# EAGLE library part OPA2170AID (library strasys_standard)
Low-Power OPERATIONAL AMPLIFIERS,SOIC- 8
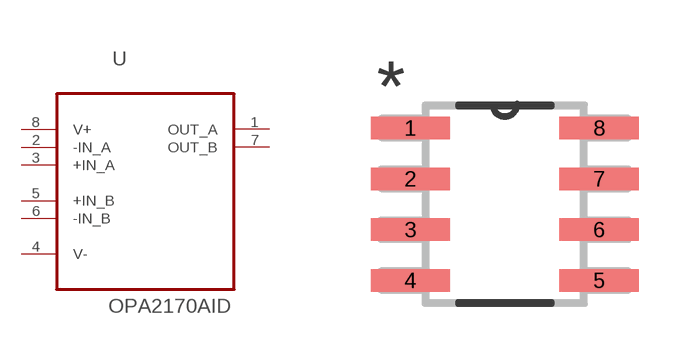
[diagram p6: symbol with the pads of SOIC127P600X175-8N; footprint SOIC127P600X175-8N]

Designator prefix U

## OPA2170AID (MPN: OPA2170AID; OC_FARNELL: 2144252; OC_NEWARK: 05W9871; PACKAGE: SOIC- 8; SUPPLIER: TEXAS INSTRUMENTS)  [SOIC127P600X175-8N]
1  OUT_A  out
2  -IN_A  in
3  +IN_A  in
4  V-  pas
5  +IN_B  in
6  -IN_B  in
7  OUT_B  out
8  V+  pwr

## Footprint SOIC127P600X175-8N (pad centres in mm)
smd 1.981 x 0.559: 1 -2.362,1.905; 2 -2.362,0.635; 3 -2.362,-0.635; 4 -2.362,-1.905; 5 2.362,-1.905; 6 2.362,-0.635; 7 2.362,0.635; 8 2.362,1.905